# Altium schematic symbol library WLC1115-68LQXQT.SchLib: 1 symbol
Pins are listed as number, name and electrical type; pins without a type are passive.

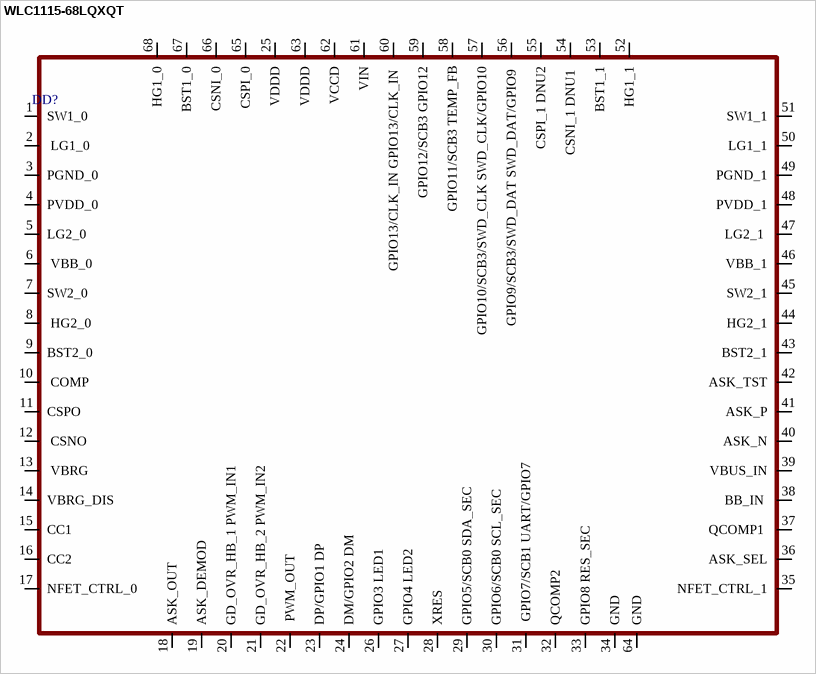
[diagram p0: symbol WLC1115-68LQXQT]

## WLC1115-68LQXQT
designator DD?
pins: 1 SW1_0 , 2  LG1_0, 3 PGND_0, 4 PVDD_0, 5 LG2_0, 6  VBB_0, 7 SW2_0 , 8  HG2_0 , 9 BST2_0, 10  COMP, 11 CSPO, 12  CSNO, 13  VBRG, 14 VBRG_DIS, 15 CC1, 16 CC2, 17 NFET_CTRL_0, 18 ASK_OUT, 19 ASK_DEMOD, 20 GD_OVR_HB_1 PWM_IN1 , 21 GD_OVR_HB_2 PWM_IN2, 22  PWM_OUT, 23 DP/GPIO1 DP, 24 DM/GPIO2 DM, 25 VDDD, 26 GPIO3 LED1, 27 GPIO4 LED2, 28 XRES, 29 GPIO5/SCB0 SDA_SEC, 30 GPIO6/SCB0 SCL_SEC, 31  GPIO7/SCB1 UART/GPIO7, 32 QCOMP2, 33 GPIO8 RES_SEC, 34 GND, 35  NFET_CTRL_1, 36 ASK_SEL, 37 QCOMP1 , 38  BB_IN , 39 VBUS_IN, 40 ASK_N, 41 ASK_P, 42 ASK_TST, 43 BST2_1, 44 HG2_1, 45  SW2_1, 46  VBB_1, 47 LG2_1 , 48 PVDD_1, 49 PGND_1, 50 LG1_1, 51 SW1_1, 52 HG1_1, 53 BST1_1, 54 CSNI_1 DNU1 , 55  CSPI_1 DNU2, 56 GPIO9/SCB3/SWD_DAT SWD_DAT/GPIO9 , 57 GPIO10/SCB3/SWD_CLK SWD_CLK/GPIO10, 58 GPIO11/SCB3 TEMP_FB, 59  GPIO12/SCB3 GPIO12, 60  GPIO13/CLK_IN GPIO13/CLK_IN , 61 VIN, 62 VCCD, 63 VDDD, 64 GND, 65 CSPI_0, 66 CSNI_0, 67 BST1_0, 68 HG1_0